# Altium schematic symbol library HLE-120-02-F-DV.SchLib: 1 symbol
Pins are listed as number, name and electrical type; pins without a type are passive.

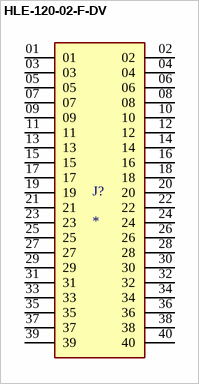
[diagram p0: symbol HLE-120-02-F-DV]

## HLE-120-02-F-DV
designator J?
40 Position Receptacle, Bottom Entry Connector Surface Mount; MP: HLE-120-02-F-DV; MF: Samtec; Value: *; Availability: In Stock; Package: None; Price: None; SnapEDA_Link: https://www.snapeda.com/parts/HLE-120-02-F-DV/Samtec+Inc./view-part/?ref=snap; Check_prices: https://www.snapeda.com/parts/HLE-120-02-F-DV/Samtec+Inc./view-part/?ref=eda; Purchase-URL: https://pricing.snapeda.com/search/part/HLE-120-02-F-DV/?ref=eda
footprint SAMTEC_HLE-120-02-F-DV
pins: 01, 02, 03, 04, 05, 06, 07, 08, 09, 10, 11, 12, 13, 14, 15, 16, 17, 18, 19, 20, 21, 22, 23, 24, 25, 26, 27, 28, 29, 30, 31, 32, 33, 34, 35, 36, 37, 38, 39, 40